# Altium schematic symbol library 0430300003.Schlib: 1 symbol
Pins are listed as number, name and electrical type; pins without a type are passive.

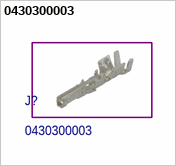
[diagram p0: symbol 0430300003]

## 0430300003
designator J?